# Altium schematic symbol library TLE2426.SchLib: 1 symbol
Pins are listed as number, name and electrical type; pins without a type are passive.

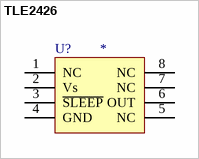
[diagram p0: symbol TLE2426]

## TLE2426
designator U?
pins: 1 NC, 2 Vs, 3 ~{SLEEP}, 4 GND, 5 NC, 6 OUT, 7 NC, 8 NC
1 alternate drawing of the same symbol